# EAGLE library part CN3083 (library CN3083)
CN3083 - China Solarladeregler bis 600mA
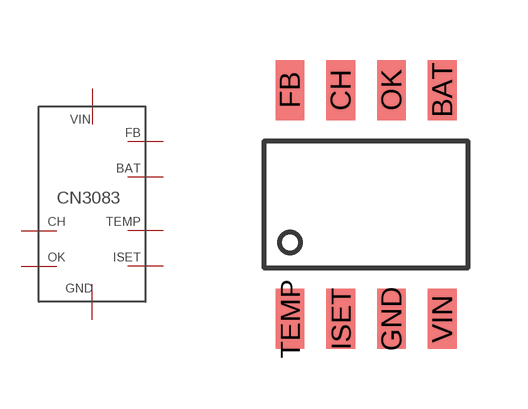
[diagram p0: symbol with the pads of SOP8; footprint SOP8]

Designator prefix -

## CN3083  [SOP8]
BAT  BAT
CH  CH
FB  FB
GND  GND
ISET  ISET
OK  OK
TEMP  TEMP
VIN  VIN

## Footprint SOP8 (pad centres in mm)
smd 0.72 x 1.5: BAT 3.81,5.72; CH 1.27,5.72; FB 0,5.72; GND 2.54,0; ISET 1.27,0; OK 2.54,5.72; TEMP 0,0; VIN 3.81,0